# EAGLE library part 6871XX14022_68712414022 (library WR-FPC)
WR-FPC 0.50 mm SMT ZIF Horizontal Top Contact KIND PROPERTIES Pitch 0.5 mm MATERIAL PROPERTIES Insulator Material LCP Contact Material Phosphor Bronze Contact Plating 100 (µ") Tin over 50 (µ") Nickel Contact Type Stamped Solder Tabs Brass <https://www.we-online.com/catalog/media/o32866v209%20Family_WE-FPC_6871xx14022.jpg> Details see: https://www.we-online.com/catalog/en/FPC_0_5_SMT_ZIF_HORIZONTAL_TOP_CONTACT_6871XX14022/ Updated by Ella Wu 2020-08-26 2020(C) Wurth Elektronik
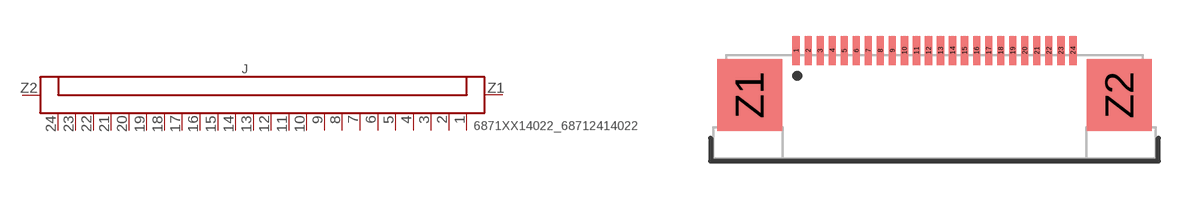
[diagram p39: symbol with the pads of 68712414022; footprint 68712414022]

Designator prefix J

## 6871XX14022_68712414022 (CONTACT-RESISTANCE: 20Ohm; DATASHEET-URL: https://www.we-online.com/catalog/datasheet/68712414022.pdf; IR: 0.5A; L: 18.4mm; PACKAGING: Tape and Reel; PART-NUMBER: 68712414022; PINS: 24; PITCH: 0.5mm; TYPE: Horizontal; VALUE: 68712414022; WORKING-VOLTAGE: 50V(AC))  [68712414022]
1  1  pas
2  2  pas
3  3  pas
4  4  pas
5  5  pas
6  6  pas
7  7  pas
8  8  pas
9  9  pas
10  10  pas
11  11  pas
12  12  pas
13  13  pas
14  14  pas
15  15  pas
16  16  pas
17  17  pas
18  18  pas
19  19  pas
20  20  pas
21  21  pas
22  22  pas
23  23  pas
24  24  pas
Z1  Z1  pas
Z2  Z2  pas

## Footprint 68712414022 (pad centres in mm)
WR-FPC 0.50 mm SMT ZIF Horizontal Top Contact ,24 Pins
smd 0.3 x 1.2: 1 -5.75,2.35; 2 -5.25,2.35; 3 -4.75,2.35; 4 -4.25,2.35; 5 -3.75,2.35; 6 -3.25,2.35; 7 -2.75,2.35; 8 -2.25,2.35; 9 -1.75,2.35; 10 -1.25,2.35; 11 -0.75,2.35; 12 -0.25,2.35; 13 0.25,2.35; 14 0.75,2.35; 15 1.25,2.35; 16 1.75,2.35; 17 2.25,2.35; 18 2.75,2.35; 19 3.25,2.35; 20 3.75,2.35; 21 4.25,2.35; 22 4.75,2.35; 23 5.25,2.35; 24 5.75,2.35
smd 2.7 x 3: Z1 -7.68,0.49; Z2 7.68,0.49